# Altium schematic symbol library PROPIASchlib.SCHLIB: 224 symbols (part 2 of 2)
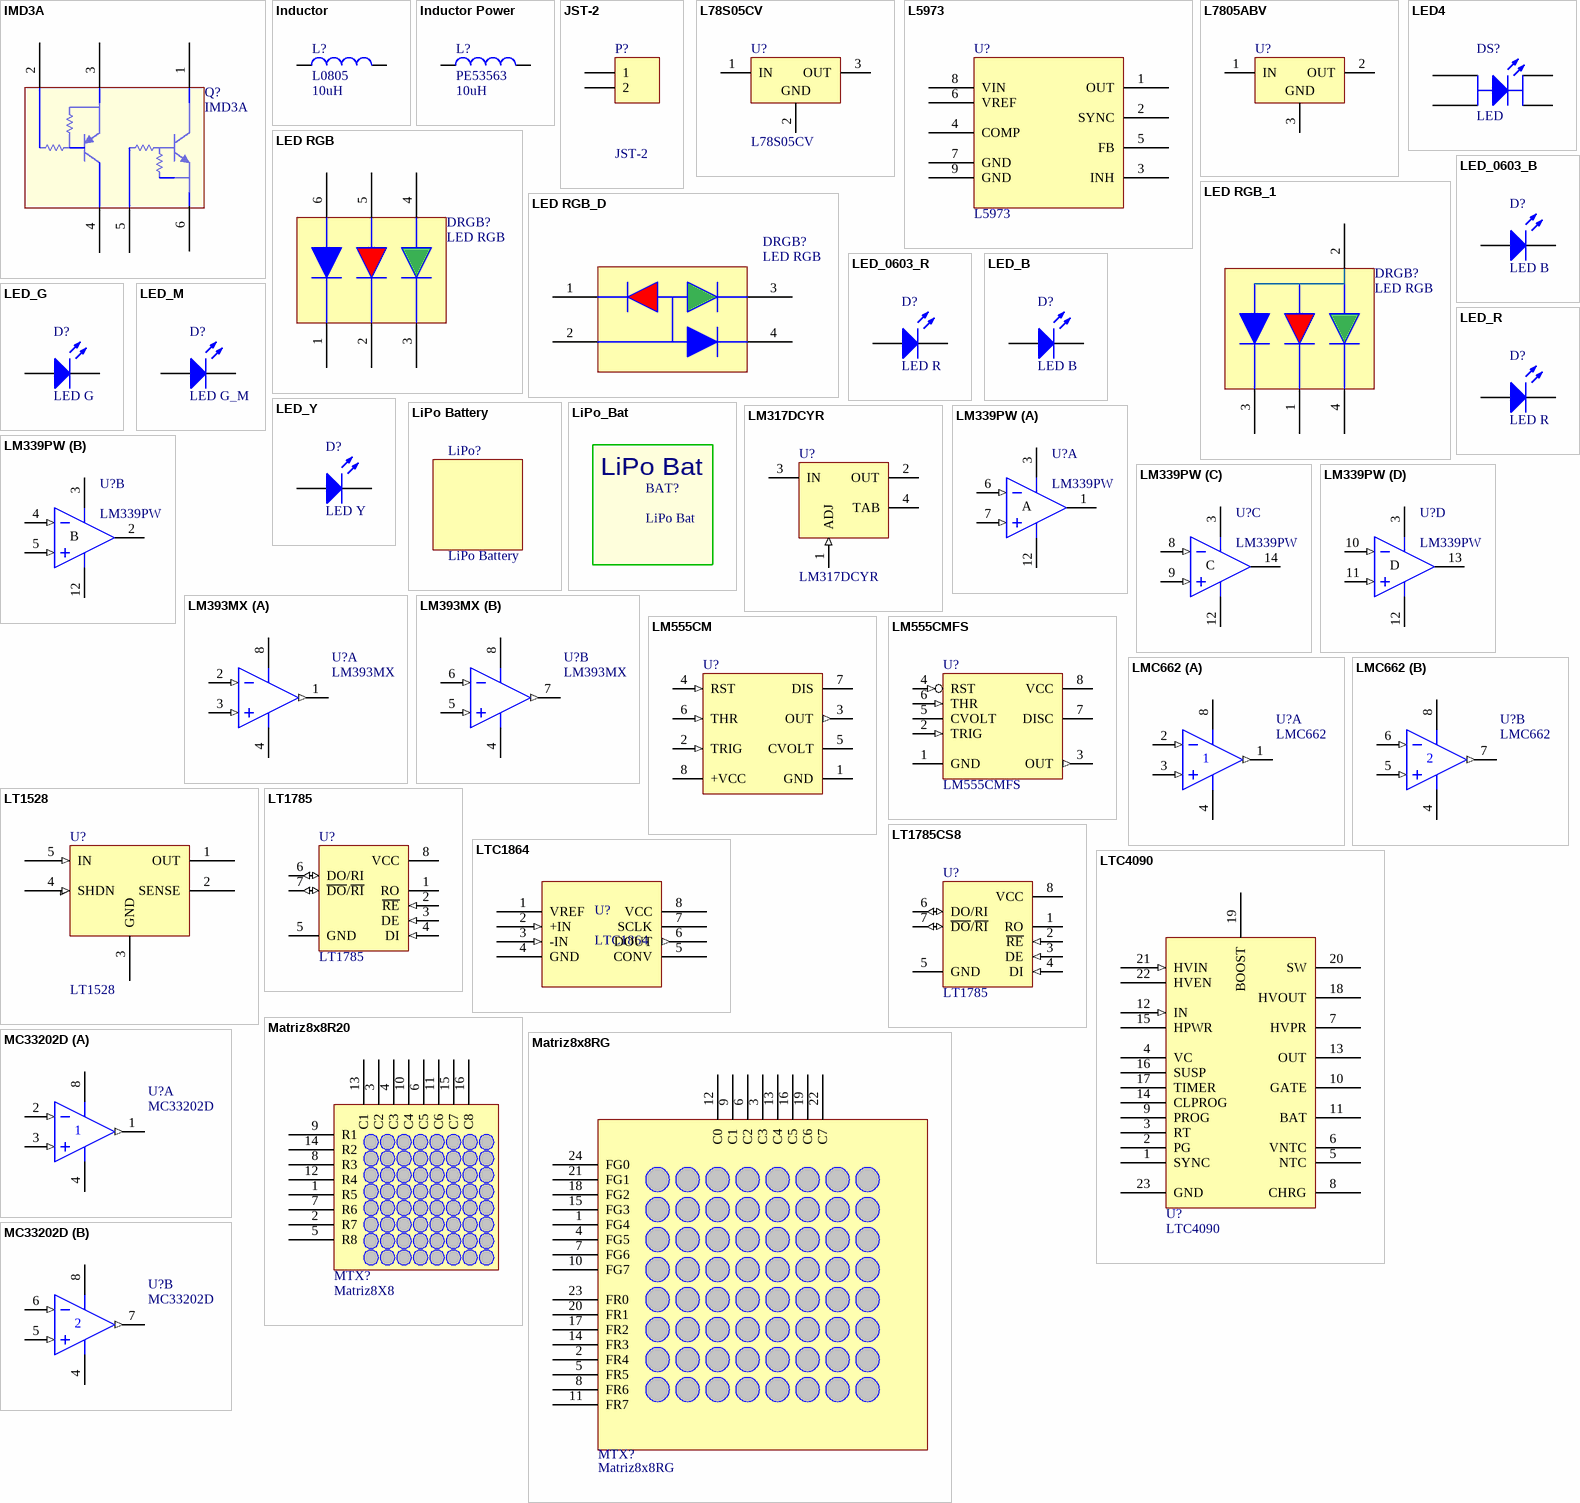
[diagram p8: symbols IMD3A to MC33202D]

## LED_Y
designator D?, comment LED Y
LED 2X3MM 585NM YEL WTR CLR SMD; Part: 67-1340-1; Proveedor: Digikey; Published: 8-Jun-2000; LatestRevisionDate: 17-Jul-2002; LatestRevisionNote: Re-released for DXP Platform.; PackageVersion: Feb-2002; PackageReference: 3.2X1.6X1.1; Publisher: Altium Limited; Price: 0.63
simulation model LED2 (Diode)
footprint LED_SML-LX
pins: 1 A, 2 K

## LiPo Battery
designator LiPo?  (mechanical)
Polymer Lithium Ion Battery - 400mAh; Part: PRT-10718; Proveedor: Sparkfun; Price: 7.93

## LiPo_Bat
designator BAT?, comment LiPo Bat
Forma bateria
footprint LIPO_BAT_MEC (Batería de Litio)

## LM317DCYR
designator U?
IC REG LDO ADJ 1.5A SOT-223-4; PartNumber: LM317EMP; Manufacturer: National Semiconductor; Part: 296-12602-1-ND; CompType: LDO IC; PackageTopMarking: XYTT*N01A; PowerWise: N; Proveedor: Digikey; Published: 4-Dec-2008; DatasheetVersion: Apr-2007; PackageVersion: revB, Apr-2003; PackageReference: MP04A; Publisher: Altium Limited; PackageDescription: Molded SOT-223, 6.50 x 3.56 x 1.6mm Body, 4 Lead, 2.3mm Pitch; RoHS: O; PinCount: 4; DigiKeyPartNumber: LM317EMPCT-ND; Code_JEDEC: TO-261-AA; Code_IPC: SOT223-4; ComponentLink1Description: LM317 Datasheet; ComponentLink1URL: http://www.national.com/ds/LM/LM317.pdf; ComponentLink2Description: LM317 Web Page; ComponentLink2URL: http://www.national.com/pf/LM/LM317.html; ComponentLink3Description: MP04A Package Page; ComponentLink3URL: http://www.national.com/packaging/folders/mp04a.html; Price: 0.66
footprint MP04A_N (SOT223, 4-Leads, Body 6.5x3.5mm, Pitch 2.3mm, Lead Span 7mm, IPC Medium Density)
footprint MP04A_L (SOT223, 4-Leads, Body 6.5x3.5mm, Pitch 2.3mm, Lead Span 7mm, IPC High Density)
footprint MP04A_M (SOT223, 4-Leads, Body 6.5x3.5mm, Pitch 2.3mm, Lead Span 7mm, IPC Low Density)
pins: 1 ADJ (in), 2 OUT (power), 3 IN (power), 4 TAB (power)

## LM339PW
designator U?
Quad Differential Comparator; Part: 296-1013-1-ND; Note: Outputs are open-collector; Proveedor: Digikey; Published: 16-Jan-2001; LatestRevisionDate: 16-Oct-2006; LatestRevisionNote: IPC-7351 Footprint Added.; DatasheetVersion: Nov-1996; PackageVersion: Feb-1999; PackageReference: PW014; Publisher: Altium Limited; PackageDescription: 14-Pin Thin Small Outline Package 0.65 mm Pitch; ComponentLink1Description: Manufacturer Link; ComponentLink1URL: http://www.ti.com/; ComponentLink2Description: Datasheet; ComponentLink2URL: http://www-s.ti.com/sc/ds/lm339.pdf; Price: 0.57
footprint PW014_N (TSOP, 14-Leads, Body 5x4.4mm, Pitch 0.65mm, IPC Medium Density)
footprint PW014_L (TSOP, 14-Leads, Body 5x4.4mm, Pitch 0.65mm, IPC High Density)
footprint PW014_M (TSOP, 14-Leads, Body 5x4.4mm, Pitch 0.65mm, IPC Low Density)
3D model PW014 (14-Pin Thin Small Outline Package 0.65 mm Pitch)
simulation model LM339 (SUBCKT)
footprint D014_L
pins on every part: 3 V+ (power), 12 V- (power)
part A pins: 1 OUT (oc), 6 IN- (in), 7 IN+ (in)
part B pins: 2 OUT (oc), 4 IN- (in), 5 IN+ (in)
part C pins: 8 IN- (in), 9 IN+ (in), 14 OUT (oc)
part D pins: 10 IN- (in), 11 IN+ (in), 13 OUT (oc)
part A text: A
part B text: B
part C text: C
part D text: D

## LM393MX
designator U?
Low Power Low Offset Voltage Dual Comparator; Manufacturer: National Semiconductor; Part: LM393MX/NOPBCT-ND; PackageTopMarking: NSZXTT*LM*393M; Proveedor: Digikey; Published: 4-Dec-2008; DatasheetVersion: Aug-2002; PackageVersion: revL, Sep-2006; PackageReference: M08A; Publisher: Altium Limited; PackageDescription: SOIC Narrow, 4.9 x 3.9 x 1.45mm, 8 Lead, 1.27mm Pitch; CompType: Comparator; PartNumber: LM393MX; RoHS: O; PinCount: 8; DigiKeyPartNumber: LM393MXCT-ND; Code_JEDEC: MS-012-AA; Code_IPC: SOIC127P600-8; ComponentLink1Description: LM393 Datasheet; ComponentLink1URL: http://www.national.com/ds/LM/LM393.pdf; ComponentLink2Description: LM393  Web Page; ComponentLink2URL: http://www.national.com/pf/LM/LM393.html; ComponentLink3Description: M08A Package Page; ComponentLink3URL: http://www.national.com/packaging/folders/m08a.html; Price: 0.80
footprint M08A_N
pins on every part: 4 GND (power), 8 V+ (power)
part A pins: 1 OUTA (out), 2 INA- (in), 3 INA+ (in)
part B pins: 5 INB+ (in), 6 INB- (in), 7 OUTB (out)

## LM555CM
designator U?
Timer; PartNumber: LM555CM; Manufacturer: National Semiconductor; Part: LM555CMFS-ND; CompType: Analog IC; PackageTopMarking: NSZXTT*LM*555CM; PowerWise: N; Proveedor: Digikey; Published: 4-Dec-2008; DatasheetVersion: Jul-2006; PackageVersion: revL, Sep-2006; PackageReference: M08A; Publisher: Altium Limited; PackageDescription: SOIC Narrow, 4.9 x 3.9 x 1.45mm, 8 Lead, 1.27mm Pitch; PinCount: 8; DigiKeyPartNumber: LM555CM-ND; Code_JEDEC: MS-012-AA; Code_IPC: SOIC127P600-8; ComponentLink1Description: LM555 Datasheet; ComponentLink1URL: http://www.national.com/ds.cgi/LM/LM555.pdf; ComponentLink2Description: LM555 Web Page; ComponentLink2URL: http://www.national.com/pf/LM/LM555.html; ComponentLink3Description: M08A package page; ComponentLink3URL: http://www.national.com/packaging/folders/m08a.html; Price: 0.298
footprint M08A_N (SOIC, 8-Leads, Body 4.9x3.9mm, Pitch 1.27mm, IPC Medium Density)
footprint M08A_L (SOIC, 8-Leads, Body 4.9x3.9mm, Pitch 1.27mm, IPC High Density)
footprint M08A_M (SOIC, 8-Leads, Body 4.9x3.9mm, Pitch 1.27mm, IPC Low Density)
pins: 1 GND (power), 2 TRIG (in), 3 OUT (out), 4 RST (in), 5 CVOLT, 6 THR (in), 7 DIS (oc), 8 +VCC (power)

## LM555CMFS
designator U?
Timer; Part: LM555CMFS-ND; Proveedor: Digikey; Published: 15-Apr-2002; LatestRevisionDate: 13-Apr-2006; LatestRevisionNote: IPC-7351 Footprint Added.; DatasheetVersion: May-1997; PackageVersion: Sep-1997; PackageReference: M08A; Publisher: Altium Limited; PackageDescription: 8-Pin Small Outline Integrated Circuit 1.27 mm Pitch; Code_JEDEC: MS-012-AA; Code_IPC: SOIC127P600-8; ComponentLink1Description: Manufacturer Link; ComponentLink1URL: http://www.national.com/; ComponentLink2Description: Datasheet; ComponentLink2URL: http://www.national.com/ds.cgi/LM/LM555.pdf; ComponentLink3Description: URL Link1; ComponentLink3URL: http://www.national.com/pf/LM/LM555.html; Price: 0.45/1;0.353/10;0.243/100
footprint M08A_N (SOIC, 8-Leads, Body 4.9x3.9mm, Pitch 1.27mm, IPC Medium Density)
footprint M08A_L (SOIC, 8-Leads, Body 4.9x3.9mm, Pitch 1.27mm, IPC High Density)
footprint M08A_M (SOIC, 8-Leads, Body 4.9x3.9mm, Pitch 1.27mm, IPC Low Density)
3D model M08A (8-Pin Small Outline Integrated Circuit 1.27 mm Pitch)
pins: 1 GND (power), 2 TRIG (in), 3 OUT (out), 4 RST (in), 5 CVOLT, 6 THR (in), 7 DISC (oc), 8 VCC (power)

## LMC662
designator U?
Rail-to-Rail Dual Operational Amplifier; Part: 296-36891-1-ND; Proveedor: Digikey; Published: 17-Jul-2002; LatestRevisionDate: 13-Apr-2006; LatestRevisionNote: IPC-7351 Footprint Added.; DatasheetVersion: Nov-1999; PackageVersion: 1996; PackageReference: 751-05; Publisher: Altium Limited; PackageDescription: 8-Pin Small Outline Integrated Circuit 1.27 mm Pitch; Code_JEDEC: MS-012-AA; Code_IPC: SOIC127P600-8; ComponentLink1Description: Manufacturer Link; ComponentLink1URL: http://www.onsemi.com/site/products/parametrics/0,4446,251,00.html; ComponentLink2Description: Datasheet; ComponentLink2URL: http://www.onsemi.com/pub/Collateral/MC33201-D.PDF; Price: 1.66/1;1.322/25;0.62/100
footprint 751-05_L (SOIC, 8-Leads, Body 4.9x3.9mm, Pitch 1.27mm, IPC High Density)
3D model 751-02 (8-Pin Small Outline Integrated Circuit 1.27 mm Pitch)
pins on every part: 4 V- (power), 8 V+ (power)
part A pins: 1 OUT (out), 2 IN- (in), 3 IN+ (in)
part B pins: 5 IN+ (in), 6 IN- (in), 7 OUT (out)

## LT1528
designator U?
3A Low Dropout Regulator
footprint TO-220-5
footprint T5-DD (LT1528 Footprint)
pins: 1 OUT (power), 2 SENSE, 3 GND (power), 4 SHDN (in), 5 IN (in)

## LT1785
designator U?
IC TXRX RS485/RS422 60V 8-SOIC; Part: LT1785IS8#PBF; Proveedor: Digikey; Published: 15-Apr-2002; LatestRevisionDate: 06-Jun-2005; LatestRevisionNote: Stylized 3D Model Added.; DatasheetVersion: Jul-1998; PackageVersion: Sep-1997; PackageReference: N08E; Publisher: Altium Limited; PackageDescription: DIP; 8 Leads; Row Spacing 7.62 mm; Pitch 2.54 mm; ComponentLink1Description: Manufacturer Link; ComponentLink1URL: http://www.national.com/; ComponentLink2Description: Datasheet; ComponentLink2URL: http://www.national.com/ds.cgi/DS/DS75176B.pdf; ComponentLink3Description: URL Link1; ComponentLink3URL: http://www.national.com/pf/DS/DS75176B.html; Price: 4.77
3D model N08E (DIP; 8 Leads; Row Spacing 7.62 mm; Pitch 2.54 mm)
footprint 8-SOP
pins: 1 RO (hiz), 2 ~{RE} (in), 3 DE (in), 4 DI (in), 5 GND (power), 6 DO/RI (io), 7 ~{DO}/~{RI} (io), 8 VCC (power)

## LT1785CS8
designator U?, comment LT1785
Multipoint RS-485/RS-422 Transceiver; Part: LT1785CS8#PBF-ND; Proveedor: Digikey; Published: 15-Apr-2002; LatestRevisionDate: 13-Apr-2006; LatestRevisionNote: IPC-7351 Footprint Added.; DatasheetVersion: Jul-1998; PackageVersion: Sep-1997; PackageReference: M08A; Publisher: Altium Limited; PackageDescription: 8-Pin Small Outline Integrated Circuit 1.27 mm Pitch; Code_JEDEC: MS-012-AA; Code_IPC: SOIC127P600-8; ComponentLink1Description: Manufacturer Link; ComponentLink1URL: http://www.national.com/; ComponentLink2Description: Datasheet; ComponentLink2URL: http://www.national.com/ds.cgi/DS/DS75176B.pdf; ComponentLink3Description: URL Link1; ComponentLink3URL: http://www.national.com/pf/DS/DS75176B.html; Price: 4.15/1;2.75/25;2.15/100
footprint M08A_N (SOIC, 8-Leads, Body 4.9x3.9mm, Pitch 1.27mm, IPC Medium Density)
footprint M08A_L (SOIC, 8-Leads, Body 4.9x3.9mm, Pitch 1.27mm, IPC High Density)
footprint M08A_M (SOIC, 8-Leads, Body 4.9x3.9mm, Pitch 1.27mm, IPC Low Density)
3D model M08A (8-Pin Small Outline Integrated Circuit 1.27 mm Pitch)
pins: 1 RO (hiz), 2 ~{RE} (in), 3 DE (in), 4 DI (in), 5 GND (power), 6 DO/RI (io), 7 ~{DO}/~{RI} (io), 8 VCC (power)

## LTC1864
designator U?
IC ADC 1CH 16B 3V 150KSPS 8SOIC; Part: LTC1864LIS8#PBF-ND; Price: 6.75
footprint SOIC-8FV
pins: 1 VREF, 2 +IN (in), 3 -IN (in), 4 GND (power), 5 CONV, 6 DOUT (out), 7 SCLK, 8 VCC (power)

## LTC4090
designator U?
Li-Ion/Polymer battery charger
footprint DFN22 (QFN, 24-Leads, Body 6.1x3.1mm (max), Pitch 0.50mm, IPC Medium Density)
pins: 1 SYNC, 2 PG, 3 RT, 4 VC, 5 NTC, 6 VNTC, 7 HVPR, 8 CHRG, 9 PROG, 10 GATE, 11 BAT, 12 IN (in), 13 OUT, 14 CLPROG, 15 HPWR, 16 SUSP, 17 TIMER, 18 HVOUT, 19 BOOST, 20 SW, 21 HVIN (in), 22 HVEN, 23 GND (power)

## Matriz8x8R20
designator MTX?, comment Matriz8X8
Matriz 8x8 20mm SunLed
footprint MATRIZ8X8R20
pins: 1 R5, 2 R7, 3 C2, 4 C3, 5 R8, 6 C5, 7 R6, 8 R3, 9 R1, 10 C4, 11 C6, 12 R4, 13 C1, 14 R2, 15 C7, 16 C8

## Matriz8x8RG
designator MTX?
MATRIZ8X8 RG Anodo Comun Columnas
footprint MatrizFuturlec
pins: 1 FG4, 2 FR4, 3 C3, 4 FG5, 5 FR5, 6 C2, 7 FG6, 8 FR6, 9 C1, 10 FG7, 11 FR7, 12 C0, 13 C4, 14 FR3, 15 FG3, 16 C5, 17 FR2, 18 FG2, 19 C6, 20 FR1, 21 FG1, 22 C7, 23 FR0, 24 FG0

## MC33202D
designator U?
Rail-to-Rail Dual Operational Amplifier; Part: MC33202DMR2GOSCT-ND; Proveedor: Digikey; Published: 17-Jul-2002; LatestRevisionDate: 13-Apr-2006; LatestRevisionNote: IPC-7351 Footprint Added.; DatasheetVersion: Nov-1999; PackageVersion: 1996; PackageReference: 751-05; Publisher: Altium Limited; PackageDescription: 8-Pin Small Outline Integrated Circuit 1.27 mm Pitch; Code_JEDEC: MS-012-AA; Code_IPC: SOIC127P600-8; ComponentLink1Description: Manufacturer Link; ComponentLink1URL: http://www.onsemi.com/site/products/parametrics/0,4446,251,00.html; ComponentLink2Description: Datasheet; ComponentLink2URL: http://www.onsemi.com/pub/Collateral/MC33201-D.PDF; Price: 0.90
3D model 751-02 (8-Pin Small Outline Integrated Circuit 1.27 mm Pitch)
footprint SOIC-8FV
pins on every part: 4 V- (power), 8 V+ (power)
part A pins: 1 OUT (out), 2 IN- (in), 3 IN+ (in)
part B pins: 5 IN+ (in), 6 IN- (in), 7 OUT (out)

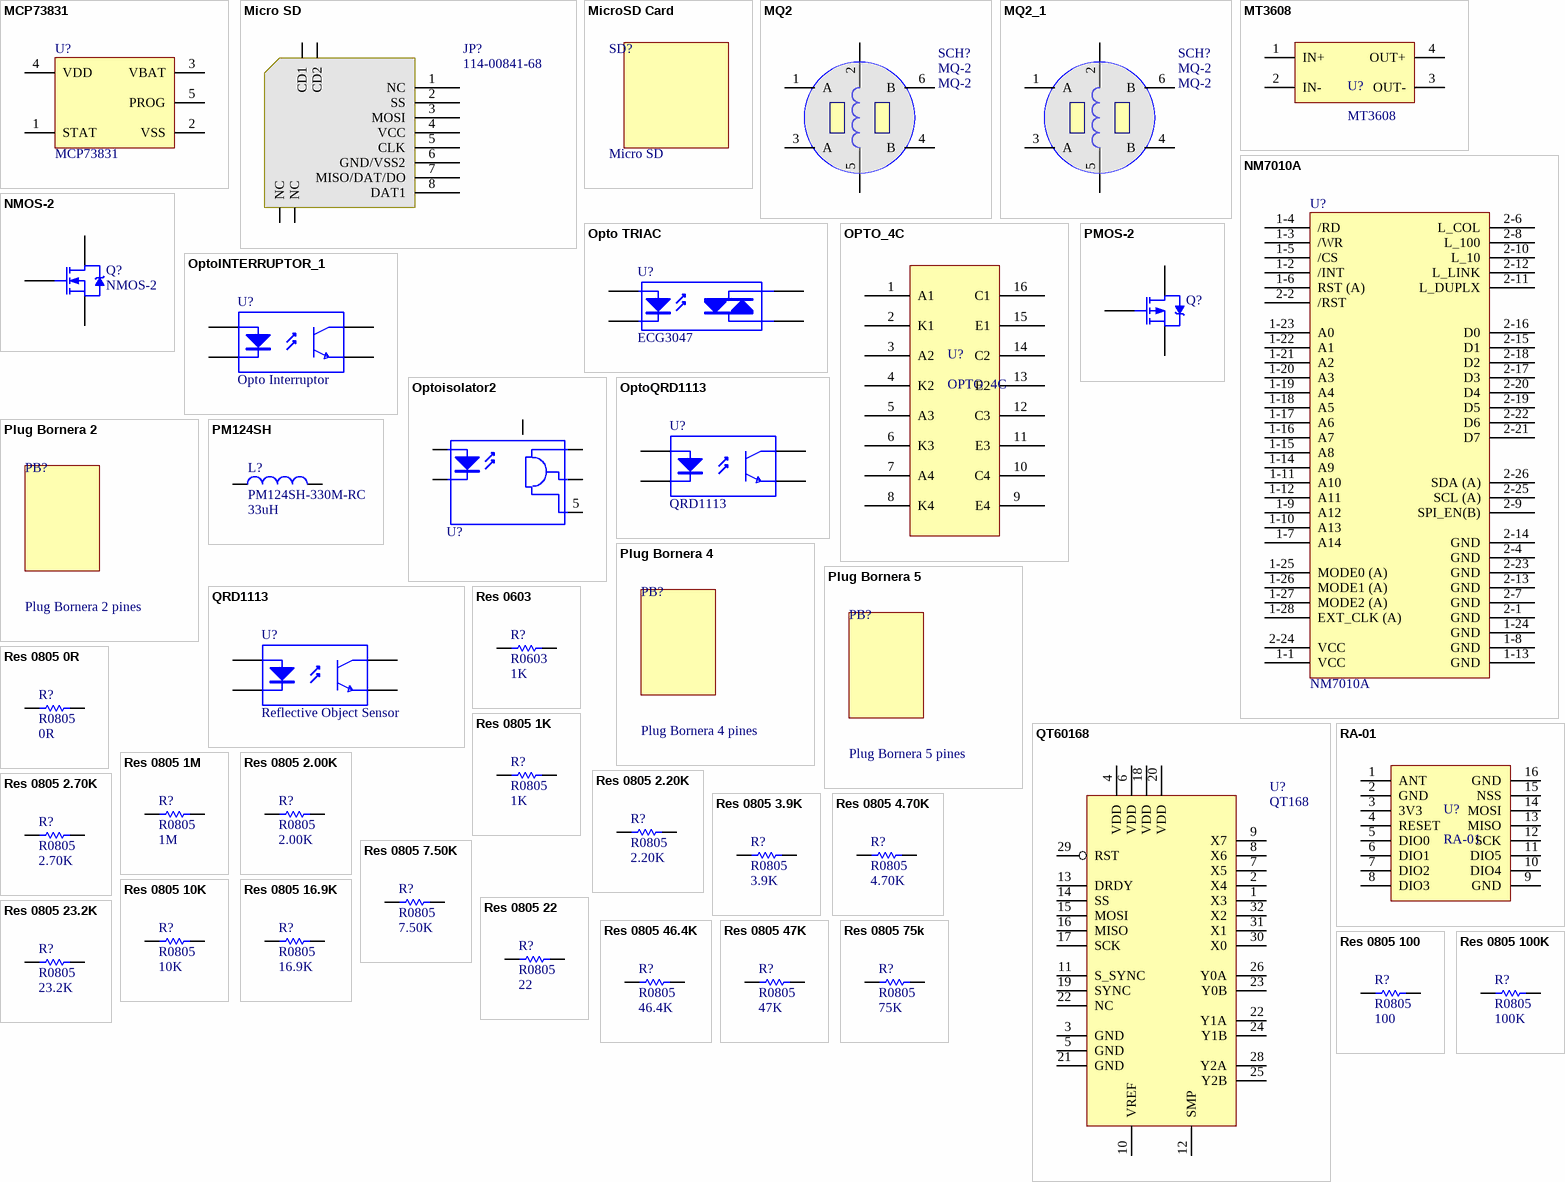
[diagram p5: symbols MCP73831 to Res 0805 100K]

## MCP73831
designator U?
Miniature Single-Cell, Fully Integrated Li-Ion,  Li-Polymer Charge Management Controllers; Part: MCP73831T-2ACI/OTCT-ND; Proveedor: Digikey; Price: 0.68
footprint RT-5 (SOT-23/SC-74A; 5 Leads; Body 3.1 x 3 mm, inc. leads (LxW max))
pins: 1 STAT, 2 VSS (power), 3 VBAT, 4 VDD, 5 PROG

## Micro SD
designator JP?, comment 114-00841-68
Micro SD None Push Connector Top Mouunt; Part: 114-00841-68-1-ND; Proveedor: Digikey; Price: 1.50
footprint MicroSD (Micro SD)
pins: 1 NC, 2 SS, 3 MOSI, 4 VCC (power), 5 CLK, 6 GND/VSS2 (power), 7 MISO/DAT/DO, 8 DAT1 (power), CD1, CD2, NC, NC

## MicroSD Card
designator SD?, comment Micro SD  (mechanical)
Micro SD Card; Proveedor: *; Part: *; Price: 6.00

## MQ2
designator SCH?, comment MQ-2
Gas Sensor; Code_IEC: 1005; Published: 8-Jun-2000; LatestRevisionDate: 17-Jul-2002; LatestRevisionNote: Re-released for DXP Platform.; PackageReference: 0402-A; Publisher: Altium Limited; Code_JEITA: 0402; Value: MQ-2
pins: 1 A, 2 H, 3 A, 4 B, 5 H, 6 B

## MQ2_1
designator SCH?, comment MQ-2
Gas Sensor; Code_IEC: 1005; Published: 8-Jun-2000; LatestRevisionDate: 17-Jul-2002; LatestRevisionNote: Re-released for DXP Platform.; PackageReference: 0402-A; Publisher: Altium Limited; Code_JEITA: 0402; Value: MQ-2
pins: 1 A, 2 H, 3 A, 4 B, 5 H, 6 B

## MT3608
designator U?
MT3608 DC Step-up ADJ Power Module 2A; Price: 6
pins: 1 IN+, 2 IN-, 3 OUT-, 4 OUT+

## NM7010A
designator U?
Wiznet TCP/IP; Part: WIZ810MJ Ethernet-SPI/Bus Module (RJ45) 2mm Pitch; Proveedor: Saelig; Price: 19.50
footprint NM7010
pins: 1-1 VCC (power), 1-2 /INT, 1-3 /WR, 1-4 /RD, 1-5 /CS, 1-6 RST (A), 1-7 A14, 1-8 GND (power), 1-9 A12, 1-10 A13, 1-11 A10, 1-12 A11, 1-13 GND (power), 1-14 A9, 1-15 A8, 1-16 A7, 1-17 A6, 1-18 A5, 1-19 A4, 1-20 A3, 1-21 A2, 1-22 A1, 1-23 A0, 1-24 GND (power), 1-25 MODE0 (A), 1-26 MODE1 (A), 1-27 MODE2 (A), 1-28 EXT_CLK (A), 2-1 GND (power), 2-2 /RST, 2-4 GND (power), 2-6 L_COL, 2-7 GND (power), 2-8 L_100, 2-9 SPI_EN(B), 2-10 L_10, 2-11 L_DUPLX, 2-12 L_LINK, 2-13 GND (power), 2-14 GND (power), 2-15 D1, 2-16 D0, 2-17 D3, 2-18 D2, 2-19 D5, 2-20 D4, 2-21 D7, 2-22 D6, 2-23 GND (power), 2-24 VCC (power), 2-25 SCL (A), 2-26 SDA (A)

## NMOS-2
designator Q?
N-Channel Power MOSFET; Part: FDN357NCT-ND; Note: Pin 2 is electrically connected to pin 4.; Proveedor: Digikey; Published: 8-Jun-2000; LatestRevisionDate: 17-Jul-2002; LatestRevisionNote: Re-released for DXP Platform.; DatasheetDocument: PD-9.814; PackageReference: TO-220AB; Publisher: Altium Limited; Code_JEDEC: TO-220-AB; ComponentLink1Description: Manufacturer Link; ComponentLink1URL: http://www.irf.com/; Price: 0.56
simulation model IRF1010 (Spice Subcircuit)
footprint SOT23MOS
pins: 1 G, 2 D, 3 S

## Opto TRIAC
designator U?, comment ECG3047
Opto-Triac; Published: 24-Mar-1999; Revision: July-2002: Re-released for DXP Platform.; Publisher: Altium Limited
footprint DIP-6
pins: 1 A, 2 K, 4 A/K, 6 A/K

## OPTO_4C
designator U?
OPTOCOUPLER TRANS 5KVRMS 4 CANALES; Part: 160-1365-5-ND; Proveedor: Digikey; Price: 0.91/1;0.75/10;0.52/100
footprint LTV-846
pins: 1 A1, 2 K1, 3 A2, 4 K2, 5 A3, 6 K3, 7 A4, 8 K4, 9 E4, 10 C4, 11 E3, 12 C3, 13 E2, 14 C2, 15 E1, 16 C1

## OptoINTERRUPTOR_1
designator U?, comment Opto Interruptor
pins: 1 A, 2 K, 3 C, 4 E

## Optoisolator2
designator U?
5 Pin Mini Flat Pack Optocoupler; Published: 24-Mar-1999; LatestRevisionDate: 04-Mar-2005; LatestRevisionNote: PCB Footprint replaced, Sch pins re-numbered.; DatasheetDocument: Apr-2004; PackageReference: SOP5(6); Publisher: Altium Limited
footprint SOP5(6) (Small Outline; 6 Leads (1 Absent); Body Width 4.4 mm; Pitch 1.27 mm)
simulation model OPTOISO (Spice Subcircuit)
pins: 1 A "Anode", 2 K "Cathode", 4 VO "Emitter", 5 GND (power), 6 VCC (power) "Collector", 6 B "Base"

## OptoQRD1113
designator U?, comment QRD1113
Foto refelector
footprint QRD1113
pins: 1 C, 2 E, 3 A, 4 K

## Plug Bornera 2
designator PB?, comment Plug Bornera 2 pines  (mechanical)
Part: A98173-ND; Proveedor: Digikey; Price: 0.31

## Plug Bornera 4
designator PB?, comment Plug Bornera 4 pines  (mechanical)
Part: A98375-ND; Proveedor: Digikey; Price: 0.62

## Plug Bornera 5
designator PB?, comment Plug Bornera 5 pines  (mechanical)
Part: A98376-ND; Proveedor: Digikey; Price: 0.77

## PM124SH
designator L?, comment PM124SH-330M-RC  value 33uH
INDUCTOR SHIELDED PWR 33UH 20%; Part: PM124SH-330M-RCCT-ND; Code_IEC: 1005; Proveedor: Digikey; Published: 8-Jun-2000; LatestRevisionDate: 17-Jul-2002; LatestRevisionNote: Re-released for DXP Platform.; PackageReference: 0402-A; Publisher: Altium Limited; Code_JEITA: 0402; Price: 0.80
simulation model INDUCTOR (Inductor)
signal-integrity model Inductor
footprint PM124SH
pins: 1, 2

## PMOS-2
designator Q?
P-Channel Power MOSFET; Note: Pin 4 not drawn and electrically connected to Pin 2.; Published: 8-Jun-2000; LatestRevisionDate: 17-Jul-2002; LatestRevisionNote: Re-released for DXP Platform.; DatasheetDocument: PD-9.390D; PackageReference: TO-220AB; Publisher: Altium Limited; Code_JEDEC: TO-220-AB; ComponentLink1Description: Manufacturer Link; ComponentLink1URL: http://www.irf.com/
simulation model IRF9510 (Spice Subcircuit)
footprint SOT23MOS
pins: 1 G, 2 D, 3 S

## QRD1113
designator U?, comment Reflective Object Sensor
footprint QRD1113
pins: 1 C, 2 E, 3 A, 4 K

## QT60168
designator U?, comment QT168
QProx 16/24 keys QMatrix
footprint TQFP-32
pins: 1 X3, 2 X4, 3 GND (power), 4 VDD (power), 5 GND (power), 6 VDD (power), 7 X5, 8 X6, 9 X7, 10 VREF, 11 S_SYNC, 12 SMP, 13 DRDY, 14 SS, 15 MOSI, 16 MISO, 17 SCK, 18 VDD (power), 19 SYNC, 20 VDD (power), 21 GND (power), 22 NC, 22 Y1A, 23 Y0B, 24 Y1B, 25 Y2B, 26 Y0A, 28 Y2A, 29 RST, 30 X0, 31 X1, 32 X2

## RA-01
designator U?
LORA Module
footprint RFM12B (Footprint RFM12B - Fernando Vásquez - 2010)
pins: 1 ANT, 2 GND (power), 3 3V3 (power), 4 RESET, 5 DIO0, 6 DIO1, 7 DIO2, 8 DIO3, 9 GND (power), 10 DIO4, 11 DIO5, 12 SCK, 13 MISO, 14 MOSI, 15 NSS, 16 GND (power)

## Res 0603
designator R?, comment R0603  value 1K
Semiconductor Resistor; Published: 8-Jun-2000; LatestRevisionDate: 17-Jul-2002; LatestRevisionNote: Re-released for DXP Platform.; PackageReference: AXIAL-0.5; Publisher: Altium Limited; Price: 0.1
simulation model RES (Semiconductor Resistor)
signal-integrity model Res Semi
footprint R0603 (Resistencia 0603 - Fernando Vásquez)
pins: 1, 2

## Res 0805 0R
designator R?, comment R0805  value 0R
Semiconductor Resistor; Part: 311-0.0ARCT-ND; Proveedor: Digikey; Published: 8-Jun-2000; LatestRevisionDate: 17-Jul-2002; LatestRevisionNote: Re-released for DXP Platform.; PackageReference: AXIAL-0.5; Publisher: Altium Limited; Price: 0.1
simulation model RES (Semiconductor Resistor)
signal-integrity model Res Semi
footprint R0805
pins: 1, 2

## Res 0805 1K
designator R?, comment R0805  value 1K
Semiconductor Resistor; Part: 311-1.0KARCT-ND; Proveedor: Digikey; Published: 8-Jun-2000; LatestRevisionDate: 17-Jul-2002; LatestRevisionNote: Re-released for DXP Platform.; PackageReference: AXIAL-0.5; Publisher: Altium Limited; Price: 0.1
simulation model RES (Semiconductor Resistor)
signal-integrity model Res Semi
footprint R0805
pins: 1, 2

## Res 0805 1M
designator R?, comment R0805  value 1M
Semiconductor Resistor; Part: 311-1.0MARCT-ND; Proveedor: Digikey; Published: 8-Jun-2000; LatestRevisionDate: 17-Jul-2002; LatestRevisionNote: Re-released for DXP Platform.; PackageReference: AXIAL-0.5; Publisher: Altium Limited; Price: 0.1
simulation model RES (Semiconductor Resistor)
signal-integrity model Res Semi
footprint R0805
pins: 1, 2

## Res 0805 2.00K
designator R?, comment R0805  value 2.00K
Semiconductor Resistor; Part: 311-2.0KARCT-ND; Proveedor: Digikey; Published: 8-Jun-2000; LatestRevisionDate: 17-Jul-2002; LatestRevisionNote: Re-released for DXP Platform.; PackageReference: AXIAL-0.5; Publisher: Altium Limited; Price: 0.1
simulation model RES (Semiconductor Resistor)
signal-integrity model Res Semi
footprint R0805
pins: 1, 2

## Res 0805 2.20K
designator R?, comment R0805  value 2.20K
Semiconductor Resistor; Part: 311-2.2KARCT-ND; Proveedor: Digikey; Published: 8-Jun-2000; LatestRevisionDate: 17-Jul-2002; LatestRevisionNote: Re-released for DXP Platform.; PackageReference: AXIAL-0.5; Publisher: Altium Limited; Price: 0.1
simulation model RES (Semiconductor Resistor)
signal-integrity model Res Semi
footprint R0805
pins: 1, 2

## Res 0805 2.70K
designator R?, comment R0805  value 2.70K
Semiconductor Resistor; Part: 311-2.7KARCT-ND; Proveedor: Digikey; Published: 8-Jun-2000; LatestRevisionDate: 17-Jul-2002; LatestRevisionNote: Re-released for DXP Platform.; PackageReference: AXIAL-0.5; Publisher: Altium Limited; Price: 0.1
simulation model RES (Semiconductor Resistor)
signal-integrity model Res Semi
footprint R0805
pins: 1, 2

## Res 0805 3.9K
designator R?, comment R0805  value 3.9K
Semiconductor Resistor; Part: 541-3.9KACT; Proveedor: Digikey; Published: 8-Jun-2000; LatestRevisionDate: 17-Jul-2002; LatestRevisionNote: Re-released for DXP Platform.; PackageReference: AXIAL-0.5; Publisher: Altium Limited; Price: 0.1
simulation model RES (Semiconductor Resistor)
signal-integrity model Res Semi
footprint R0805
pins: 1, 2

## Res 0805 4.70K
designator R?, comment R0805  value 4.70K
Semiconductor Resistor; Part: 311-4.7KARCT-ND; Proveedor: Digikey; Published: 8-Jun-2000; LatestRevisionDate: 17-Jul-2002; LatestRevisionNote: Re-released for DXP Platform.; PackageReference: AXIAL-0.5; Publisher: Altium Limited; Price: 0.1
simulation model RES (Semiconductor Resistor)
signal-integrity model Res Semi
footprint R0805
pins: 1, 2

## Res 0805 7.50K
designator R?, comment R0805  value 7.50K
Semiconductor Resistor; Part: 311-7.5KARCT-ND; Proveedor: Digikey; Published: 8-Jun-2000; LatestRevisionDate: 17-Jul-2002; LatestRevisionNote: Re-released for DXP Platform.; PackageReference: AXIAL-0.5; Publisher: Altium Limited; Price: 0.1
simulation model RES (Semiconductor Resistor)
signal-integrity model Res Semi
footprint R0805
pins: 1, 2

## Res 0805 10K
designator R?, comment R0805  value 10K
Semiconductor Resistor; Part: 311-10KARCT-ND; Proveedor: Digikey; Published: 8-Jun-2000; LatestRevisionDate: 17-Jul-2002; LatestRevisionNote: Re-released for DXP Platform.; PackageReference: AXIAL-0.5; Publisher: Altium Limited; Price: 0.1
simulation model RES (Semiconductor Resistor)
signal-integrity model Res Semi
footprint R0805
pins: 1, 2

## Res 0805 16.9K
designator R?, comment R0805  value 16.9K
Semiconductor Resistor; Part: 541-16.9KCCT-ND; Proveedor: Digikey; Published: 8-Jun-2000; LatestRevisionDate: 17-Jul-2002; LatestRevisionNote: Re-released for DXP Platform.; PackageReference: AXIAL-0.5; Publisher: Altium Limited; Price: 0.1
simulation model RES (Semiconductor Resistor)
signal-integrity model Res Semi
footprint R0805
pins: 1, 2

## Res 0805 22
designator R?, comment R0805  value 22
Semiconductor Resistor; Part: 311-22ARCT-ND; Proveedor: Digikey; Published: 8-Jun-2000; LatestRevisionDate: 17-Jul-2002; LatestRevisionNote: Re-released for DXP Platform.; PackageReference: AXIAL-0.5; Publisher: Altium Limited; Price: 0.1
simulation model RES (Semiconductor Resistor)
signal-integrity model Res Semi
footprint R0805
pins: 1, 2

## Res 0805 23.2K
designator R?, comment R0805  value 23.2K
Semiconductor Resistor; Part: 541-23.2KCCT-ND; Proveedor: Digikey; Published: 8-Jun-2000; LatestRevisionDate: 17-Jul-2002; LatestRevisionNote: Re-released for DXP Platform.; PackageReference: AXIAL-0.5; Publisher: Altium Limited; Price: 0.1
simulation model RES (Semiconductor Resistor)
signal-integrity model Res Semi
footprint R0805
pins: 1, 2

## Res 0805 46.4K
designator R?, comment R0805  value 46.4K
Semiconductor Resistor; Part: 541-46.4KCCT-ND; Proveedor: Digikey; Published: 8-Jun-2000; LatestRevisionDate: 17-Jul-2002; LatestRevisionNote: Re-released for DXP Platform.; PackageReference: AXIAL-0.5; Publisher: Altium Limited; Price: 0.1
simulation model RES (Semiconductor Resistor)
signal-integrity model Res Semi
footprint R0805
pins: 1, 2

## Res 0805 47K
designator R?, comment R0805  value 47K
Semiconductor Resistor; Part: 311-47KARCT-ND; Proveedor: Digikey; Published: 8-Jun-2000; LatestRevisionDate: 17-Jul-2002; LatestRevisionNote: Re-released for DXP Platform.; PackageReference: AXIAL-0.5; Publisher: Altium Limited; Price: 0.1
simulation model RES (Semiconductor Resistor)
signal-integrity model Res Semi
footprint R0805
pins: 1, 2

## Res 0805 75k
designator R?, comment R0805  value 75K
Semiconductor Resistor; Part: 311-75KARCT-ND; Proveedor: Digikey; Published: 8-Jun-2000; LatestRevisionDate: 17-Jul-2002; LatestRevisionNote: Re-released for DXP Platform.; PackageReference: AXIAL-0.5; Publisher: Altium Limited; Price: 1
simulation model RES (Semiconductor Resistor)
signal-integrity model Res Semi
footprint R0805
pins: 1, 2

## Res 0805 100
designator R?, comment R0805  value 100
Semiconductor Resistor; Part: 311-100ARCT-ND; Proveedor: Digikey; Published: 8-Jun-2000; LatestRevisionDate: 17-Jul-2002; LatestRevisionNote: Re-released for DXP Platform.; PackageReference: AXIAL-0.5; Publisher: Altium Limited; Price: 0.1
simulation model RES (Semiconductor Resistor)
signal-integrity model Res Semi
footprint R0805
pins: 1, 2

## Res 0805 100K
designator R?, comment R0805  value 100K
Semiconductor Resistor; Part: 311-100KARCT-ND; Proveedor: Digikey; Published: 8-Jun-2000; LatestRevisionDate: 17-Jul-2002; LatestRevisionNote: Re-released for DXP Platform.; PackageReference: AXIAL-0.5; Publisher: Altium Limited; Price: 0.1
simulation model RES (Semiconductor Resistor)
signal-integrity model Res Semi
footprint R0805
pins: 1, 2

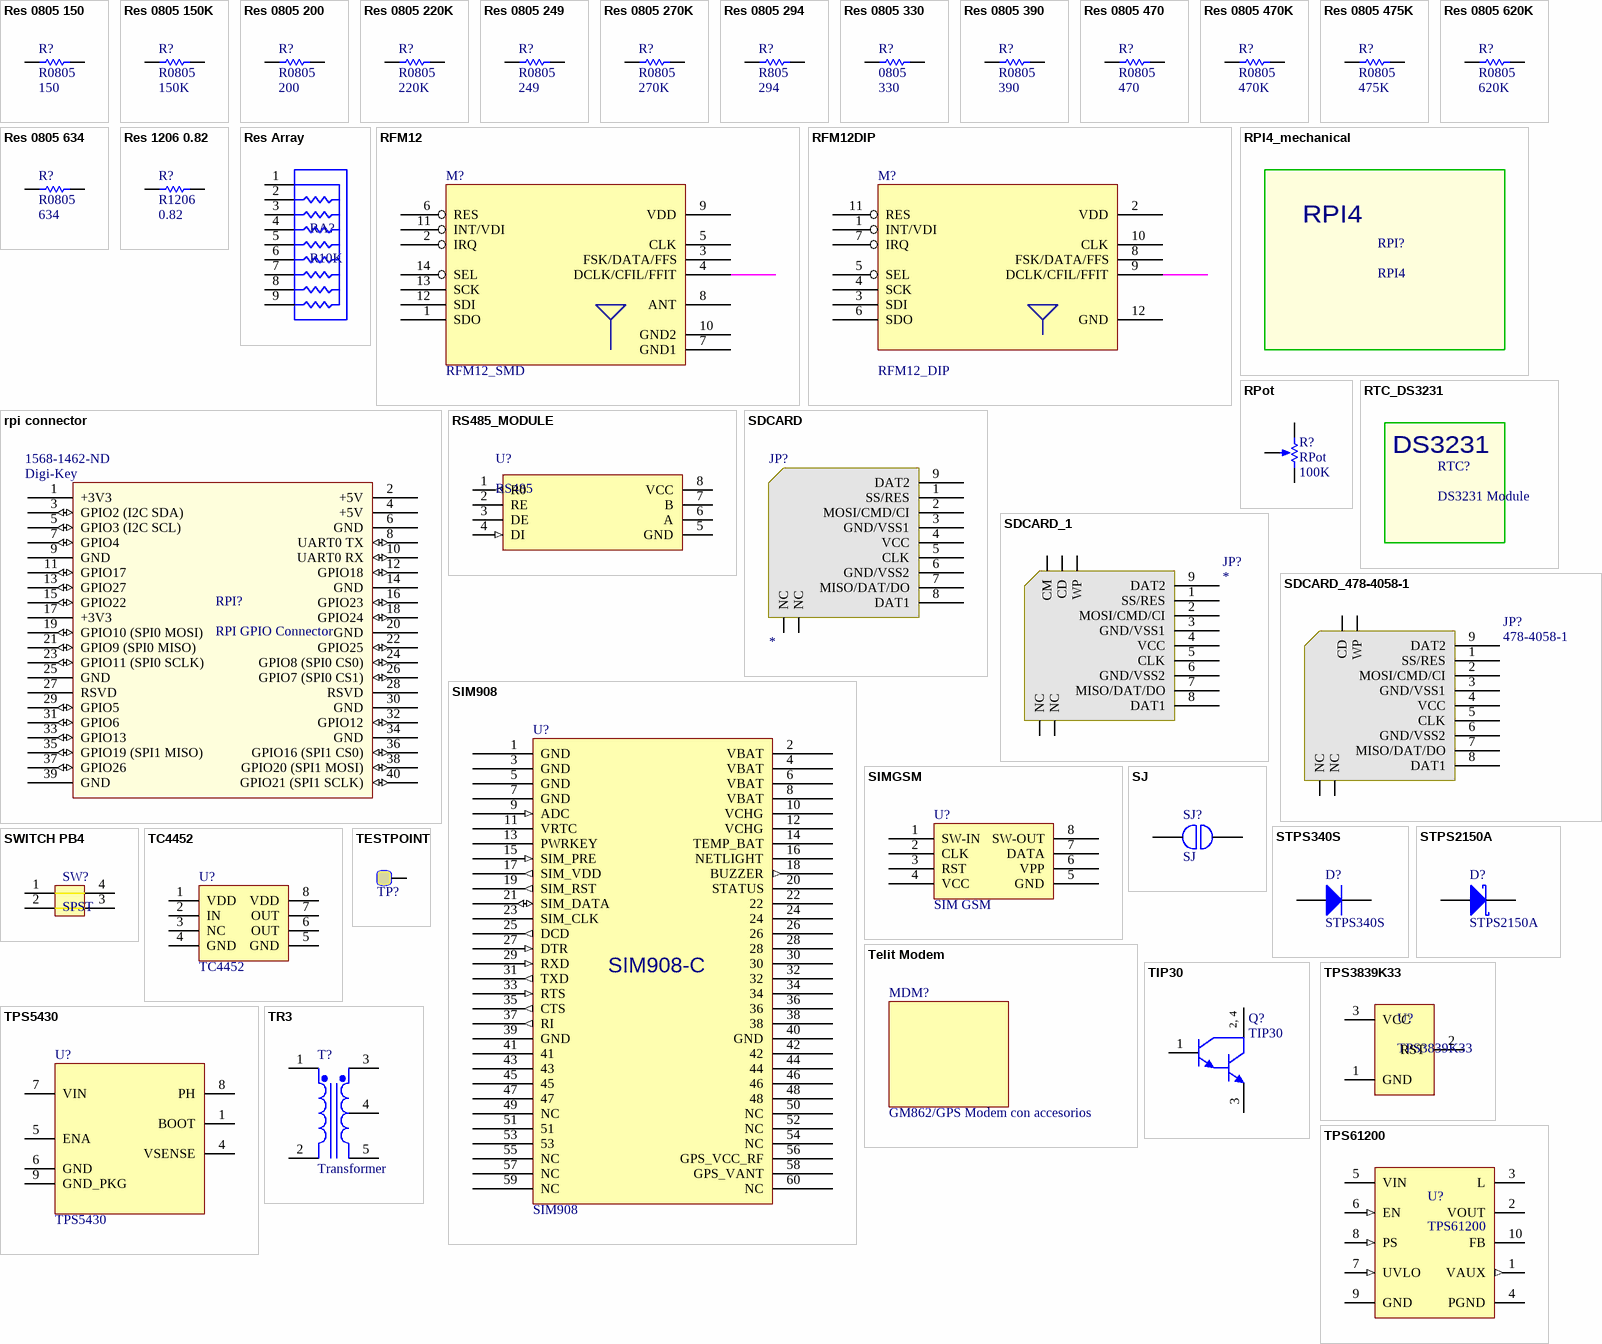
[diagram p6: symbols Res 0805 150 to TR3]

## Res 0805 150
designator R?, comment R0805  value 150
Semiconductor Resistor; Part: 311-150ARCT-ND; Proveedor: Digikey; Published: 8-Jun-2000; LatestRevisionDate: 17-Jul-2002; LatestRevisionNote: Re-released for DXP Platform.; PackageReference: AXIAL-0.5; Publisher: Altium Limited; Price: 0.1
simulation model RES (Semiconductor Resistor)
signal-integrity model Res Semi
footprint R0805
pins: 1, 2

## Res 0805 150K
designator R?, comment R0805  value 150K
Semiconductor Resistor; Part: 311-150KARCT-ND; Proveedor: Digikey; Published: 8-Jun-2000; LatestRevisionDate: 17-Jul-2002; LatestRevisionNote: Re-released for DXP Platform.; PackageReference: AXIAL-0.5; Publisher: Altium Limited; Price: 0.1
simulation model RES (Semiconductor Resistor)
signal-integrity model Res Semi
footprint R0805
pins: 1, 2

## Res 0805 200
designator R?, comment R0805  value 200
Semiconductor Resistor; Part: 541-200ACT; Proveedor: Digikey; Published: 8-Jun-2000; LatestRevisionDate: 17-Jul-2002; LatestRevisionNote: Re-released for DXP Platform.; PackageReference: AXIAL-0.5; Publisher: Altium Limited; Price: 0.1
simulation model RES (Semiconductor Resistor)
signal-integrity model Res Semi
footprint R0805
pins: 1, 2

## Res 0805 220K
designator R?, comment R0805  value 220K
Semiconductor Resistor; Part: 311-220KARCT-ND; Proveedor: Digikey; Published: 8-Jun-2000; LatestRevisionDate: 17-Jul-2002; LatestRevisionNote: Re-released for DXP Platform.; PackageReference: AXIAL-0.5; Publisher: Altium Limited; Price: 0.1
simulation model RES (Semiconductor Resistor)
signal-integrity model Res Semi
footprint R0805
pins: 1, 2

## Res 0805 249
designator R?, comment R0805  value 249
RES SMD 249 OHM 0.1% 1/8W 0805; Part: P249DACT-ND; Proveedor: Digikey; Published: 8-Jun-2000; LatestRevisionDate: 17-Jul-2002; LatestRevisionNote: Re-released for DXP Platform.; PackageReference: AXIAL-0.5; Publisher: Altium Limited; Price: 0.36
simulation model RES (Semiconductor Resistor)
signal-integrity model Res Semi
footprint R0805
pins: 1, 2

## Res 0805 270K
designator R?, comment R0805  value 270K
Semiconductor Resistor; Part: 311-270KARCT-ND; Proveedor: Digikey; Published: 8-Jun-2000; LatestRevisionDate: 17-Jul-2002; LatestRevisionNote: Re-released for DXP Platform.; PackageReference: AXIAL-0.5; Publisher: Altium Limited; Price: 0.1
simulation model RES (Semiconductor Resistor)
signal-integrity model Res Semi
footprint R0805
pins: 1, 2

## Res 0805 294
designator R?, comment R805  value 294
Semiconductor Resistor; Part: 541-294CCT-ND; Proveedor: Digikey; Published: 8-Jun-2000; LatestRevisionDate: 17-Jul-2002; LatestRevisionNote: Re-released for DXP Platform.; PackageReference: AXIAL-0.5; Publisher: Altium Limited; Price: 0.1
simulation model RES (Semiconductor Resistor)
signal-integrity model Res Semi
footprint R0805
pins: 1, 2

## Res 0805 330
designator R?, comment 0805  value 330
Semiconductor Resistor; Part: 311-330ARCT-ND; Proveedor: Digikey; Published: 8-Jun-2000; LatestRevisionDate: 17-Jul-2002; LatestRevisionNote: Re-released for DXP Platform.; PackageReference: AXIAL-0.5; Publisher: Altium Limited; Price: 0.1
simulation model RES (Semiconductor Resistor)
signal-integrity model Res Semi
footprint R0805
pins: 1, 2

## Res 0805 390
designator R?, comment R0805  value 390
Semiconductor Resistor; Part: 311-390ARCT-ND; Proveedor: Digikey; Published: 8-Jun-2000; LatestRevisionDate: 17-Jul-2002; LatestRevisionNote: Re-released for DXP Platform.; PackageReference: AXIAL-0.5; Publisher: Altium Limited; Price: 0.1
simulation model RES (Semiconductor Resistor)
signal-integrity model Res Semi
footprint R0805
pins: 1, 2

## Res 0805 470
designator R?, comment R0805  value 470
Semiconductor Resistor; Part: 311-470ARCT-ND; Proveedor: Digikey; Published: 8-Jun-2000; LatestRevisionDate: 17-Jul-2002; LatestRevisionNote: Re-released for DXP Platform.; PackageReference: AXIAL-0.5; Publisher: Altium Limited; Price: 0.1
simulation model RES (Semiconductor Resistor)
signal-integrity model Res Semi
footprint R0805
pins: 1, 2

## Res 0805 470K
designator R?, comment R0805  value 470K
Semiconductor Resistor; Part: 311-470KARCT-ND; Proveedor: Digikey; Published: 8-Jun-2000; LatestRevisionDate: 17-Jul-2002; LatestRevisionNote: Re-released for DXP Platform.; PackageReference: AXIAL-0.5; Publisher: Altium Limited; Price: 0.1
simulation model RES (Semiconductor Resistor)
signal-integrity model Res Semi
footprint R0805
pins: 1, 2

## Res 0805 475K
designator R?, comment R0805  value 475K
Semiconductor Resistor; Part: P475KCCT-ND; Proveedor: Digikey; Published: 8-Jun-2000; LatestRevisionDate: 17-Jul-2002; LatestRevisionNote: Re-released for DXP Platform.; PackageReference: AXIAL-0.5; Publisher: Altium Limited; Price: 0.1
simulation model RES (Semiconductor Resistor)
signal-integrity model Res Semi
footprint R0805
pins: 1, 2

## Res 0805 620K
designator R?, comment R0805  value 620K
Semiconductor Resistor; Part: 311-620KARCT-ND; Proveedor: Digikey; Published: 8-Jun-2000; LatestRevisionDate: 17-Jul-2002; LatestRevisionNote: Re-released for DXP Platform.; PackageReference: AXIAL-0.5; Publisher: Altium Limited; Price: 0.1
simulation model RES (Semiconductor Resistor)
signal-integrity model Res Semi
footprint R0805
pins: 1, 2

## Res 0805 634
designator R?, comment R0805  value 634
Semiconductor Resistor; Part: 541-634CCT-ND; Proveedor: Digikey; Published: 8-Jun-2000; LatestRevisionDate: 17-Jul-2002; LatestRevisionNote: Re-released for DXP Platform.; PackageReference: AXIAL-0.5; Publisher: Altium Limited; Price: 0.1
simulation model RES (Semiconductor Resistor)
signal-integrity model Res Semi
footprint R0805
pins: 1, 2

## Res 1206 0.82
designator R?, comment R1206  value 0.82
Semiconductor Resistor; Part: P.82RCT-ND; Proveedor: Digikey; Published: 8-Jun-2000; LatestRevisionDate: 17-Jul-2002; LatestRevisionNote: Re-released for DXP Platform.; PackageReference: AXIAL-0.5; Publisher: Altium Limited; Price: 0.54
simulation model RES (Semiconductor Resistor)
signal-integrity model Res Semi
footprint RESC5025L (Chip Resistor, Body 5.0x2.5mm, IPC High Density)
pins: 1, 2

## Res Array
designator RA?, comment R10K
Res Array 10k; Digikey Part: 4609X-101-103LF-ND; Value: 10K
footprint Model Name (Footprint not found)
footprint Model Name (Footprint not found)
footprint HDR1X9 (Connector; Header; 9 Position)
pins: 1, 2, 3, 4, 5, 6, 7, 8, 9

## RFM12
designator M?, comment RFM12_SMD
Universal ISM Band FSK Transceiver Module
footprint RFM12B (Footprint RFM12B - Fernando Vásquez - 2010)
pins: 1 SDO, 2 IRQ, 3 FSK/DATA/FFS, 4 DCLK/CFIL/FFIT, 5 CLK, 6 RES, 7 GND1 (power), 8 ANT, 9 VDD (power), 10 GND2 (power), 11 INT/VDI, 12 SDI, 13 SCK, 14 SEL

## RFM12DIP
designator M?, comment RFM12_DIP
Universal ISM Band FSK Transceiver Module
footprint RFM12B1
pins: 1 INT/VDI, 2 VDD (power), 3 SDI, 4 SCK, 5 SEL, 6 SDO, 7 IRQ, 8 FSK/DATA/FFS, 9 DCLK/CFIL/FFIT, 10 CLK, 11 RES, 12 GND (power)

## RPI4_mechanical
designator RPI?, comment RPI4
footprint RPI4_Mechanical (Rpi4 Mechanical)

## rpi connector
designator RPI?, comment RPI GPIO Connector  Supplier 1: Digi-Key  Supplier Part Number 1: 1568-1462-ND
GPIO Header for Raspberry Pi A+/B+/Pi 2/Pi 3 - 2x20; Manufacturer: SparkFun Electronics; Manufacturer Part Number: PRT-14017; Nils Minor: author; nilsminor@web.de: mail; RoHS: RoHS Compliant; Category: Development Boards, Kits, Programmers; Stock 1: 150; Pricing 1: 1=1.84 (EUR); Part Status: Active; Accessory Type: Connector; For Use With/Related Products: Raspberry Pi; ComponentLink1URL: https://cdn.sparkfun.com/datasheets/Dev/RaspberryPi/12313.pdf; ComponentLink1Description: https://cdn.sparkfun.com/datasheets/Dev/RaspberryPi/12313.pdf
footprint rpi
pins: 1 +3V3 (power), 2 +5V (power), 3 GPIO2 (I2C SDA) (io), 4 +5V (power), 5 GPIO3 (I2C SCL) (io), 6 GND (power), 7 GPIO4 (io), 8 UART0 TX (io), 9 GND (power), 10 UART0 RX (io), 11 GPIO17 (io), 12 GPIO18 (io), 13 GPIO27 (io), 14 GND (power), 15 GPIO22 (io), 16 GPIO23 (io), 17 +3V3 (power), 18 GPIO24 (io), 19 GPIO10 (SPI0 MOSI) (io), 20 GND (power), 21 GPIO9 (SPI0 MISO) (io), 22 GPIO25 (io), 23 GPIO11 (SPI0 SCLK) (io), 24 GPIO8 (SPI0 CS0) (io), 25 GND (power), 26 GPIO7 (SPI0 CS1) (io), 27 RSVD, 28 RSVD, 29 GPIO5 (io), 30 GND (power), 31 GPIO6 (io), 32 GPIO12 (io), 33 GPIO13 (io), 34 GND, 35 GPIO19 (SPI1 MISO) (io), 36 GPIO16 (SPI1 CS0) (io), 37 GPIO26 (io), 38 GPIO20 (SPI1 MOSI) (io), 39 GND (power), 40 GPIO21 (SPI1 SCLK) (io)

## RPot
designator R?  value 100K
Potentiometer; Sim Note: Enter the Resistance value and the set point into parameter fields.; Set Position: 0.5; Published: 8-Jun-2000; LatestRevisionDate: 17-Jul-2002; LatestRevisionNote: Re-released for DXP Platform.; PackageReference: VR5; Publisher: Altium Limited
footprint VR5 (Potentiometer; 3 Leads)
simulation model POT (Potentiometer)
footprint pot4
pins: 1 TOP, 2 BOT, 3 TAP
1 alternate drawing of the same symbol

## RS485_MODULE
designator U?, comment RS485
Modulo RS485 Arduino; FirstPublished: 29-Jan-2009; DatasheetVersion: revF, Oct-2009; PackageVersion: revBB, Aug-2009; PackageReference: SOIC-SN8; Publisher: Altium Limited; PackageDescription: 8-Lead Plastic Small Outline (SN) - Narrow, 3.90mm Body [SOIC]; Supplier 1: Digi-Key; Supplier 2: Farnell; Supplier Part Number 2: 1331314; Supplier 3: Newark; Supplier Part Number 3: 72C4393; Code_JEDEC: MS-012; Code_IPC: SOIC127P600-8; ComponentLink1Description: Datasheet; ComponentLink2Description: Packaging Specification; ComponentLink3Description: Microchip.com Home
footprint RS485_MODULE
pins: 1 R0 (out), 2 RE, 3 DE, 4 DI (in), 5 GND (power), 6 A, 7 B, 8 VCC (power)

## RTC_DS3231
designator RTC?, comment DS3231 Module
Forma bateria
footprint RTC_DS3231 (Modulo DS3231)
text: DS3231

## SDCARD
designator JP?
footprint SDConector (Conector Data Flash)
pins: 1 SS/RES, 2 MOSI/CMD/CI, 3 GND/VSS1 (power), 4 VCC (power), 5 CLK, 6 GND/VSS2, 7 MISO/DAT/DO, 8 DAT1 (power), 9 DAT2 (power), A NC, A NC

## SDCARD_1
designator JP?
Sparkfun SD Conector
footprint SDConector (Conector Data Flash)
footprint SDConector_1
pins: 1 SS/RES, 2 MOSI/CMD/CI, 3 GND/VSS1 (power), 4 VCC (power), 5 CLK, 6 GND/VSS2, 7 MISO/DAT/DO, 8 DAT1 (power), 9 DAT2 (power), A NC, A NC, CD, CM, WP

## SDCARD_478-4058-1
designator JP?, comment 478-4058-1
CONN MEMORY CARD REV BOTTOM PCB; Part: 478-4058-1-ND; Proveedor: Digikey; Price: 4.54
footprint SD_tiporeverso_478-4058-1 (Conector SD card (bottom layer))
pins: 1 SS/RES, 2 MOSI/CMD/CI, 3 GND/VSS1 (power), 4 VCC (power), 5 CLK, 6 GND/VSS2, 7 MISO/DAT/DO, 8 DAT1 (power), 9 DAT2 (power), A NC, A NC, CD, WP

## SIM908
designator U?
Header, 30-Pin, Dual row (Kit price); Revision: 17-Jul-2002: Re-released for DXP Platform.; Publisher: Altium Limited; Price: 42.83
signal-integrity model Connector
footprint SIM908
pins: 1 GND (power), 2 VBAT (power), 3 GND (power), 4 VBAT (power), 5 GND (power), 6 VBAT, 7 GND (power), 8 VBAT, 9 ADC (in), 10 VCHG (power), 11 VRTC, 12 VCHG, 13 PWRKEY, 14 TEMP_BAT, 15 SIM_PRE (in), 16 NETLIGHT, 17 SIM_VDD (out), 18 BUZZER (out), 19 SIM_RST (out), 20 STATUS, 21 SIM_DATA (io), 22, 23 SIM_CLK, 24, 25 DCD (out), 26, 27 DTR (in), 28, 29 RXD (in), 30, 31 TXD (out), 32, 33 RTS (in), 34, 35 CTS (out), 36, 37 RI (out), 38, 39 GND, 40 GND, 41, 42, 43, 44, 45, 46, 47, 48, 49 NC, 50 NC, 51, 52 NC, 53, 54 NC, 55 NC, 56 GPS_VCC_RF, 57 NC, 58 GPS_VANT, 59 NC, 60 NC
text: SIM908-C

## SIMGSM
designator U?, comment SIM GSM
SIM Holder; Price: 1.2
footprint SIMGSM
pins: 1 SW-IN, 2 CLK, 3 RST, 4 VCC, 5 GND (power), 6 VPP, 7 DATA, 8 SW-OUT

## SJ
designator SJ?
Solder Junction
footprint SJ
pins: 1, 2

## STPS340S
designator D?
Diode Schottky 40V 3A; Manufacturer: Generic Components; Class I: Discrete; Class II: Diode - Switching; Published: 8-Jun-2000; Revision: July-2002: Re-released for DXP Platform.; Publisher: Altium Limited; Price: 0.601/50
simulation model DIODE (Diode)
signal-integrity model Diode
footprint STPS340S
pins: 1 A, 2 K

## STPS2150A
designator D?
Schottky Rectifier; Part: 497-2467-1-ND; Proveedor: Digikey; Published: 8-Jun-2000; LatestRevisionDate: 17-Jul-2002; LatestRevisionNote: Re-released for DXP Platform.; DatasheetVersion: Dec-1997; PackageReference: DO-204AL; Publisher: Altium Limited; Code_JEDEC: DO-204-AL; ComponentLink1Description: Manufacturer Link; ComponentLink1URL: http://www.irf.com/; ComponentLink2Description: Datasheet; ComponentLink2URL: http://www.irf.com/product-info/datasheets/data/11dq03.pdf; Price: 0.49
simulation model 11DQ03 (DIODE)
footprint DSO-C2/X2.3 (DO-214-AA/SMB; 2 C-Bend Leads; Body 5.3 x 3.6 mm, inc. leads (LxW))
pins: 1 A, 2 K

## SWITCH PB4
designator SW?, comment SPST
SPST 4 pines switch
footprint SWITCH PB4
pins: 1 (power), 2 (power), 3 (power), 4 (power)

## TC4452
designator U?
12A High-Speed MOSFET Drivers; Proveedor: http://search.digikey.com/scripts/DkSearch/dksus.dll?Detail?name=296-13266-1-ND; Price: 1/0.48;100/0.27;1000/0.1596
footprint AD623
pins: 1 VDD (power), 2 IN, 3 NC, 4 GND (power), 5 GND (power), 6 OUT, 7 OUT, 8 VDD (power)

## Telit Modem
designator MDM?, comment GM862/GPS Modem con accesorios  (mechanical)
TELIT GM862-GPS con accesorios; Proveedor: *; Part: *; Price: *

## TESTPOINT
designator TP?  (value not drawn)
Punto de Prueba (FV2008)
footprint TESTPOINT (TestPoint)
pins: 1 TP

## TIP30
designator Q?
NPN Darlington Transistor; Part: 568-4160-1-ND; Proveedor: Digikey; Published: 17-Sep-2003; LatestRevisionDate: 12-Dec-2006; LatestRevisionNote: IPC-7351 Footprint Added.; DatasheetVersion: 14-Apr-1999; PackageVersion: Aug-2001; PackageReference: SOT223; Publisher: Altium Limited; PackageDescription: 4-Pin SOT-223 Package 2.3 mm Pitch, 7 mm Lead Span; ComponentLink1Description: Manufacturer Link; ComponentLink1URL: http://www.semiconductors.philips.com/; ComponentLink2Description: Datasheet; ComponentLink2URL: http://www.semiconductors.philips.com/acrobat/datasheets/PZTA14_4.pdf; Price: 0.44/1;0.33/25;0.28/100
footprint SOT223_N (SOT223, 4-Leads, Body 6.5x3.5mm, Pitch 2.3mm, Lead Span 7mm, IPC Medium Density)
footprint SOT223_L (SOT223, 4-Leads, Body 6.5x3.5mm, Pitch 2.3mm, Lead Span 7mm, IPC High Density)
footprint SOT223_M (SOT223, 4-Leads, Body 6.5x3.5mm, Pitch 2.3mm, Lead Span 7mm, IPC Low Density)
simulation model PZTA14 (SUBCKT)
pins: 1 B, 2 C, 3 E, 4 C
text: 2, 4

## TPS3839K33
designator U?
Ultra-Low Power, Supply Voltage Supervisor; Price: 0.642; Digikey Part: 296-35471-1-ND
pins: 1 GND (power), 2 RST, 3 VCC (power)

## TPS5430
designator U?
3A Switching Regulator; Part: 296-26988-1; Proveedor: Digikey; Price: 4.80
footprint SOIC8NREG (TPS5431)
pins: 1 BOOT, 4 VSENSE, 5 ENA, 6 GND (power), 7 VIN (power), 8 PH, 9 GND_PKG (power)

## TPS61200
designator U?
Low Input Voltage Synchronous Boost Converter; Price: 2.46; Digikey Part: 296-27017-1-ND
pins: 1 VAUX (out), 2 VOUT, 3 L, 4 PGND (power), 5 VIN (power), 6 EN (in), 7 UVLO (in), 8 PS (in), 9 GND (power), 10 FB

## TR3
designator T?, comment Transformer
Center-Tapped Transformer (Coupled Inductor Model); Published: 8-Jun-2000; Revision: July-2002: Re-released for DXP Platform.; Publisher: Altium Limited
simulation model TRANSFORMER (Transformer)
footprint TR1
footprint TR2
footprint TR3
pins: 1 Pri+, 2 Pri-, 3 Sec+, 4 SecCT, 5 Sec-

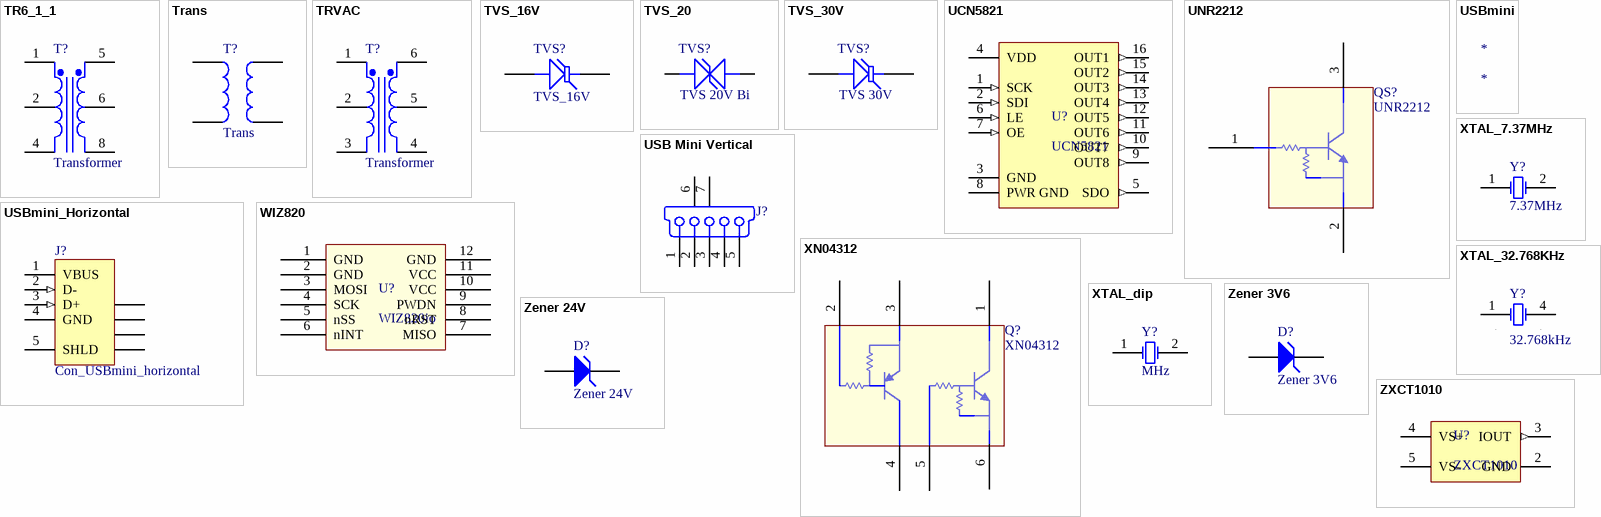
[diagram p7: symbols TR6_1_1 to ZXCT1010]

## TR6_1_1
designator T?, comment Transformer
Center-Tapped Transformer (Coupled Inductor Model); Published: 8-Jun-2000; Revision: July-2002: Re-released for DXP Platform.; Publisher: Altium Limited
simulation model TRANSFORMER (Transformer)
footprint TR1
footprint TR2
footprint TR3
pins: 1 Pri+, 2 Tap, 4 Pri-, 5 Sec+, 6 SecCT, 8 Sec-

## Trans
designator T?
Transformer; Published: 24-Mar-1999; LatestRevisionDate: 08-Jul-2005; LatestRevisionNote: Mech Layer 1 removed.; PackageReference: TRANS; Publisher: Altium Limited
footprint TRANS (Transformer; 4 Leads)
simulation model TRANSFORMER (Transformer)
pins: 1, 2, 3, 4

## TRVAC
designator T?, comment Transformer
Center-Tapped Transformer (Coupled Inductor Model); Published: 8-Jun-2000; Revision: July-2002: Re-released for DXP Platform.; Publisher: Altium Limited
simulation model TRANSFORMER (Transformer)
footprint TRvac
pins: 1 Pri+, 2 Tap, 3 Pri-, 4 Sec-, 5 SecCT, 6 Sec+

## TVS_16V
designator TVS?
Tranzorb; Part: P4SMA16CA-ND; Proveedor: Digikey; Published: 24-Mar-1999; LatestRevisionDate: 17-Jul-2002; LatestRevisionNote: Re-released for DXP Platform.; PackageReference: DO-7; Publisher: Altium Limited; Price: 0.5
footprint TVS (DO-214-AA/SMB; 2 C-Bend Leads; Body 5.3 x 3.6 mm, inc. leads (LxW))
pins: 1 A, 2 K

## TVS_20
designator TVS?, comment value TVS 20V Bi  (hidden comment: TVS_20V)
TVS DIODE 20VWM 32.4VC SMB; Part: SMBJ20CA; Proveedor: Digikey; Published: 24-Mar-1999; LatestRevisionDate: 17-Jul-2002; LatestRevisionNote: Re-released for DXP Platform.; PackageReference: DO-7; Publisher: Altium Limited; Price: 0.58
footprint TVS (DO-214-AA/SMB; 2 C-Bend Leads; Body 5.3 x 3.6 mm, inc. leads (LxW))
pins: 1 A, 2 K

## TVS_30V
designator TVS?  value TVS 30V  (hidden comment: TVS_30V)
Tranzorb; Part: P6SMB30AT3GOSCT-ND; Proveedor: Digikey; Published: 24-Mar-1999; LatestRevisionDate: 17-Jul-2002; LatestRevisionNote: Re-released for DXP Platform.; PackageReference: DO-7; Publisher: Altium Limited; Price: 0.43
footprint TVS (DO-214-AA/SMB; 2 C-Bend Leads; Body 5.3 x 3.6 mm, inc. leads (LxW))
pins: 1 A, 2 K

## UCN5821
designator U?
footprint DIP-16
pins: 1 SCK (in), 2 SDI (in), 3 GND (power), 4 VDD (power), 5 SDO (out), 6 LE (in), 7 OE (in), 8 PWR GND (power), 9 OUT8 (out), 10 OUT7 (out), 11 OUT6 (out), 12 OUT5 (out), 13 OUT4 (out), 14 OUT3 (out), 15 OUT2 (out), 16 OUT1 (out)

## UNR2212
designator QS?
NPN-R integrado; Part: DDTC124ECA-FDICT-ND; Proveedor: Digikey; Price: 0.23
footprint Mini3
pins: 1, 2, 3

## USB Mini Vertical
designator J?
CONN RECEPT USB 5POS VERT PCB; Part: WM17120-ND; PCB_Layout: Complies with Manufacturer's Recommendation.; Proveedor: Digikey; Published: 30-May-2008; DatasheetVersion: rev0, Mar-2004; PackageVersion: rev0, Mar-2004; PackageReference: 5000750517; Publisher: Altium Limited; PackageDescription: USB Mini-B, Type 2, Thru-Hole; 5 Position; Vertical, Body 7.7 x 4.2 x 7.7 mm (LxWxH); ComponentLink1Description: Manufacturer Link; ComponentLink1URL: http://www.molex.com/; ComponentLink2Description: Datasheet; ComponentLink2URL: http://www.molex.com/pdm_docs/sd/5000750517_sd.pdf; Price: 4.93
footprint 5000750517 (Connector; USB Mini-B, Type 2, Thru-Hole; 5 Position; Vertical)
signal-integrity model USB Mini-B
pins: 1 V BUS "USB Vcc [Red]", 2 D- "USB Data - [White]", 3 D+ "USB Data + [Green]", 4 ID, 5 GND "Ground [Black]", 6 MH1 "Shell", 7 MH2 "Shell"

## USBmini
designator *

## USBmini_Horizontal
designator J?, comment Con_USBmini_horizontal
USB 2.0, Right Angle, SMT, A Type, Receptacle, 5 Position, Black; Part: H2959CT-ND; ContactMaterial: Phosphor Bronze; ContactPlating: Gold (30) over Nickel; PCB_Layout: Complies with manufacturer's recommendation.; DrillSize: Corresponds to nominal value.; PanelGround: Without; Proveedor: Digikey; Published: 15-Jul-2004; DatasheetDocument: 15-Nov-2002; PackageDocument: 15-Nov-2002; PackageReference: 440478; Publisher: Altium Limited; HousingMaterial: Thermoplastic; ComponentLink1Description: Manufacturer Link; ComponentLink1URL: http://www.tycoelectronics.com/; ComponentLink2Description: Packaging Specification; ComponentLink2URL: http://ecommas.tycoelectronics.com/commerce/DocumentDelivery/DDEController?Action=showdoc&DocId=Customer+Drawing%7F440478%7FB%7Fpdf%7FEnglish%7FC_440478_B.pdf; Price: 1.07
signal-integrity model USB2.0
footprint Mini_USB_Postes_sujecion (Connector; USB2.0, Type A, SM; 5 Position; Right Angle)
pins: 1 VBUS (power) "Power", 2 D- (in) "-DATA", 3 D+ (in) "+DATA", 4 GND (power) "Ground", 5 SHLD "Shield", 6 SHLD "Shield", 7 SHLD "Shield", 8 SHLD "Shield", 9 SHLD "Shield"

## WIZ820
designator U?, comment WIZ820io
footprint WIZ820
pins: 1 GND (power), 2 GND (power), 3 MOSI, 4 SCK, 5 nSS, 6 nINT, 7 MISO, 8 nRST, 9 PWDN, 10 VCC (power), 11 VCC (power), 12 GND (power)

## XN04312
designator Q?
NPN y PNP Array; Part: DMG264040RCT-ND; Code - JEDEC: TO-92A; Published: 8-Jun-2000; Datasheet: Latest Revision: 1997; Publisher: Altium Limited; Price: 0.43; Proveedor: http://search.digikey.com/scripts/DkSearch/dksus.dll?Detail?name=XN0431200LCT-ND
footprint MINI6-G1
footprint Mini6-G1
pins: 1, 2, 3, 4, 5, 6

## XTAL_7.37MHz
designator Y?, comment 7.37MHz
CRYSTAL 7.3728MHZ 18PF SMD; Part: 535-9088-1-ND; Proveedor: Digikey; Published: 8-Jun-2000; LatestRevisionDate: 17-Jul-2002; LatestRevisionNote: Re-released for DXP Platform.; PackageReference: R38; Publisher: Altium Limited; Price: 0.47
simulation model XTAL (Spice Subcircuit)
footprint CRYSTALSMD
pins: 1 OSC1, 2 OSC2

## XTAL_32.768KHz
designator Y?, comment 32.768kHz
Crystal Oscillator 32.768kHz SMD; Manufacturer: Generic Components; Part: 535-9166-1-ND; Proveedor: Digikey; Published: 8-Jun-2000; Revision: July-2002: Re-released for DXP Platform.; Publisher: Altium Limited; Class I: Oscillator; Class II: Crystal Oscillator; Price: 0.71
footprint Crystal32kHzSMD
pins: 1 OSC1, 2 NC, 3 NC, 4 OSC2
2 alternate drawings of the same symbol

## XTAL_dip
designator Y?, comment MHz
CRYSTAL  MHZ 18PF DIP; Part: 535-9088-1-ND; Proveedor: Digikey; Published: 8-Jun-2000; LatestRevisionDate: 17-Jul-2002; LatestRevisionNote: Re-released for DXP Platform.; PackageReference: R38; Publisher: Altium Limited; Price: 0.47
footprint RAD-0.2
pins: 1 OSC1, 2 OSC2

## Zener 3V6
designator D?
DIODE ZENER 3.6V 1W MINI2; Part: DZ2W03600LCT-ND; Proveedor: Digikey; Published: 8-Jun-2000; LatestRevisionDate: 17-Jul-2002; LatestRevisionNote: Re-released for DXP Platform.; PackageReference: DIODE-0.7; Publisher: Altium Limited; Price: 0.44/1;0.3264/25;0.27930/100
simulation model ZENER (Diode)
signal-integrity model D Zener
footprint SOD123/X.85
pins: 1 A, 2 K

## Zener 24V
designator D?
DIODE ZENER 500MW 24V SOD123; Part: MMSZ5252B-TPMSCT-ND; Proveedor: Digikey; Published: 8-Jun-2000; LatestRevisionDate: 17-Jul-2002; LatestRevisionNote: Re-released for DXP Platform.; PackageReference: DIODE-0.7; Publisher: Altium Limited; Price: 0.21
simulation model ZENER (Diode)
signal-integrity model D Zener
footprint SOD123/X.85
pins: 1 A, 2 K

## ZXCT1010
designator U?
IC CURRENT MONITOR 1% SOT-23-5; Digikey Part: ZXCT1010CT-ND; Price: 1.24
footprint SOT-23-5 (SOT-23/SC-74A; 5 Leads; Body 3 x 3.1 mm, inc. leads (LxW max))
pins: 2 GND (power), 3 IOUT (out), 4 VS+, 5 VS-